# EAGLE library part AT32UC3C2 (library Atmel)
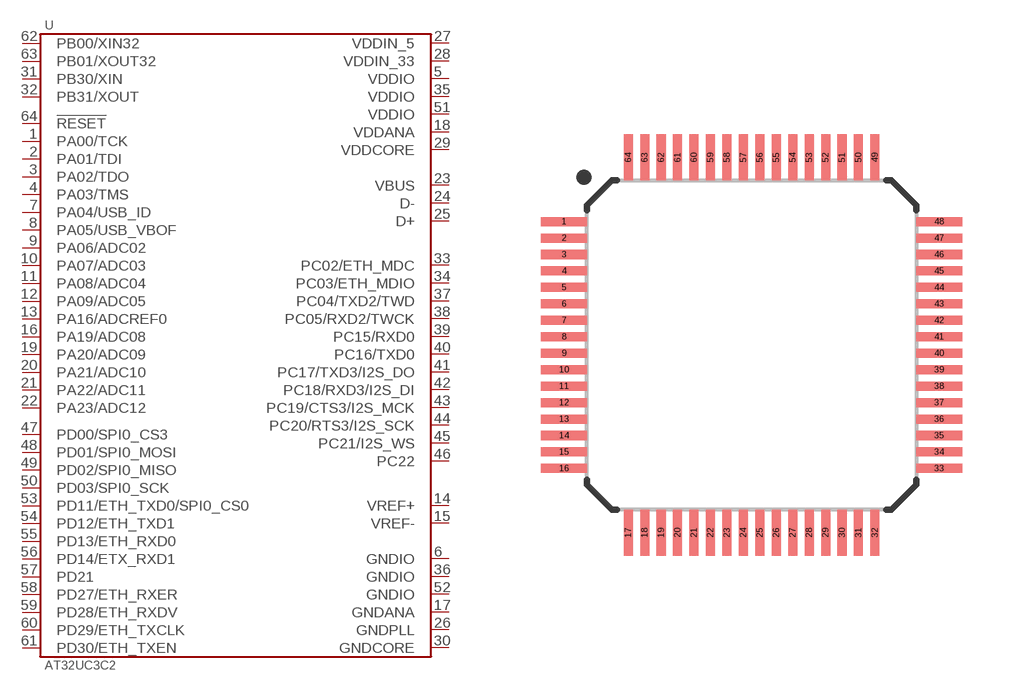
[diagram p21: symbol with the pads of TQFP-64-10MM; footprint TQFP-64-10MM]

Designator prefix U

## AT32UC3C2512-A2ZT  [TQFP-64-10MM]
1  PA00/TCK
2  PA01/TDI
3  PA02/TDO
4  PA03/TMS
5  VDDIO
6  GNDIO
7  PA04/USB_ID
8  PA05/USB_VBOF
9  PA06/ADC02
10  PA07/ADC03
11  PA08/ADC04
12  PA09/ADC05
13  PA16/ADCREF0
14  VREF+
15  VREF-
16  PA19/ADC08
17  GNDANA
18  VDDANA
19  PA20/ADC09
20  PA21/ADC10
21  PA22/ADC11
22  PA23/ADC12
23  VBUS
24  D-
25  D+
26  GNDPLL
27  VDDIN_5
28  VDDIN_33
29  VDDCORE
30  GNDCORE
31  PB30/XIN
32  PB31/XOUT
33  PC02/ETH_MDC
34  PC03/ETH_MDIO
35  VDDIO
36  GNDIO
37  PC04/TXD2/TWD
38  PC05/RXD2/TWCK
39  PC15/RXD0
40  PC16/TXD0
41  PC17/TXD3/I2S_DO
42  PC18/RXD3/I2S_DI
43  PC19/CTS3/I2S_MCK
44  PC20/RTS3/I2S_SCK
45  PC21/I2S_WS
46  PC22
47  PD00/SPI0_CS3
48  PD01/SPI0_MOSI
49  PD02/SPI0_MISO
50  PD03/SPI0_SCK
51  VDDIO
52  GNDIO
53  PD11/ETH_TXD0/SPI0_CS0
54  PD12/ETH_TXD1
55  PD13/ETH_RXD0
56  PD14/ETX_RXD1
57  PD21
58  PD27/ETH_RXER
59  PD28/ETH_RXDV
60  PD29/ETH_TXCLK
61  PD30/ETH_TXEN
62  PB00/XIN32
63  PB01/XOUT32
64  !RESET

## Footprint TQFP-64-10MM (pad centres in mm)
smd 1.4 x 0.275: 1 -5.7,3.75; 2 -5.7,3.25; 3 -5.7,2.75; 4 -5.7,2.25; 5 -5.7,1.75; 6 -5.7,1.25; 7 -5.7,0.75; 8 -5.7,0.25; 9 -5.7,-0.25; 10 -5.7,-0.75; 11 -5.7,-1.25; 12 -5.7,-1.75; 13 -5.7,-2.25; 14 -5.7,-2.75; 15 -5.7,-3.25; 16 -5.7,-3.75; 33 5.7,-3.75; 34 5.7,-3.25; 35 5.7,-2.75; 36 5.7,-2.25; 37 5.7,-1.75; 38 5.7,-1.25; 39 5.7,-0.75; 40 5.7,-0.25; 41 5.7,0.25; 42 5.7,0.75; 43 5.7,1.25; 44 5.7,1.75; 45 5.7,2.25; 46 5.7,2.75; 47 5.7,3.25; 48 5.7,3.75
smd 0.275 x 1.4: 17 -3.75,-5.7; 18 -3.25,-5.7; 19 -2.75,-5.7; 20 -2.25,-5.7; 21 -1.75,-5.7; 22 -1.25,-5.7; 23 -0.75,-5.7; 24 -0.25,-5.7; 25 0.25,-5.7; 26 0.75,-5.7; 27 1.25,-5.7; 28 1.75,-5.7; 29 2.25,-5.7; 30 2.75,-5.7; 31 3.25,-5.7; 32 3.75,-5.7; 49 3.75,5.7; 50 3.25,5.7; 51 2.75,5.7; 52 2.25,5.7; 53 1.75,5.7; 54 1.25,5.7; 55 0.75,5.7; 56 0.25,5.7; 57 -0.25,5.7; 58 -0.75,5.7; 59 -1.25,5.7; 60 -1.75,5.7; 61 -2.25,5.7; 62 -2.75,5.7; 63 -3.25,5.7; 64 -3.75,5.7